# Altium schematic symbol library Schlib_Harwin.SchLib: 9 symbols
Pins are listed as number, name and electrical type; pins without a type are passive.

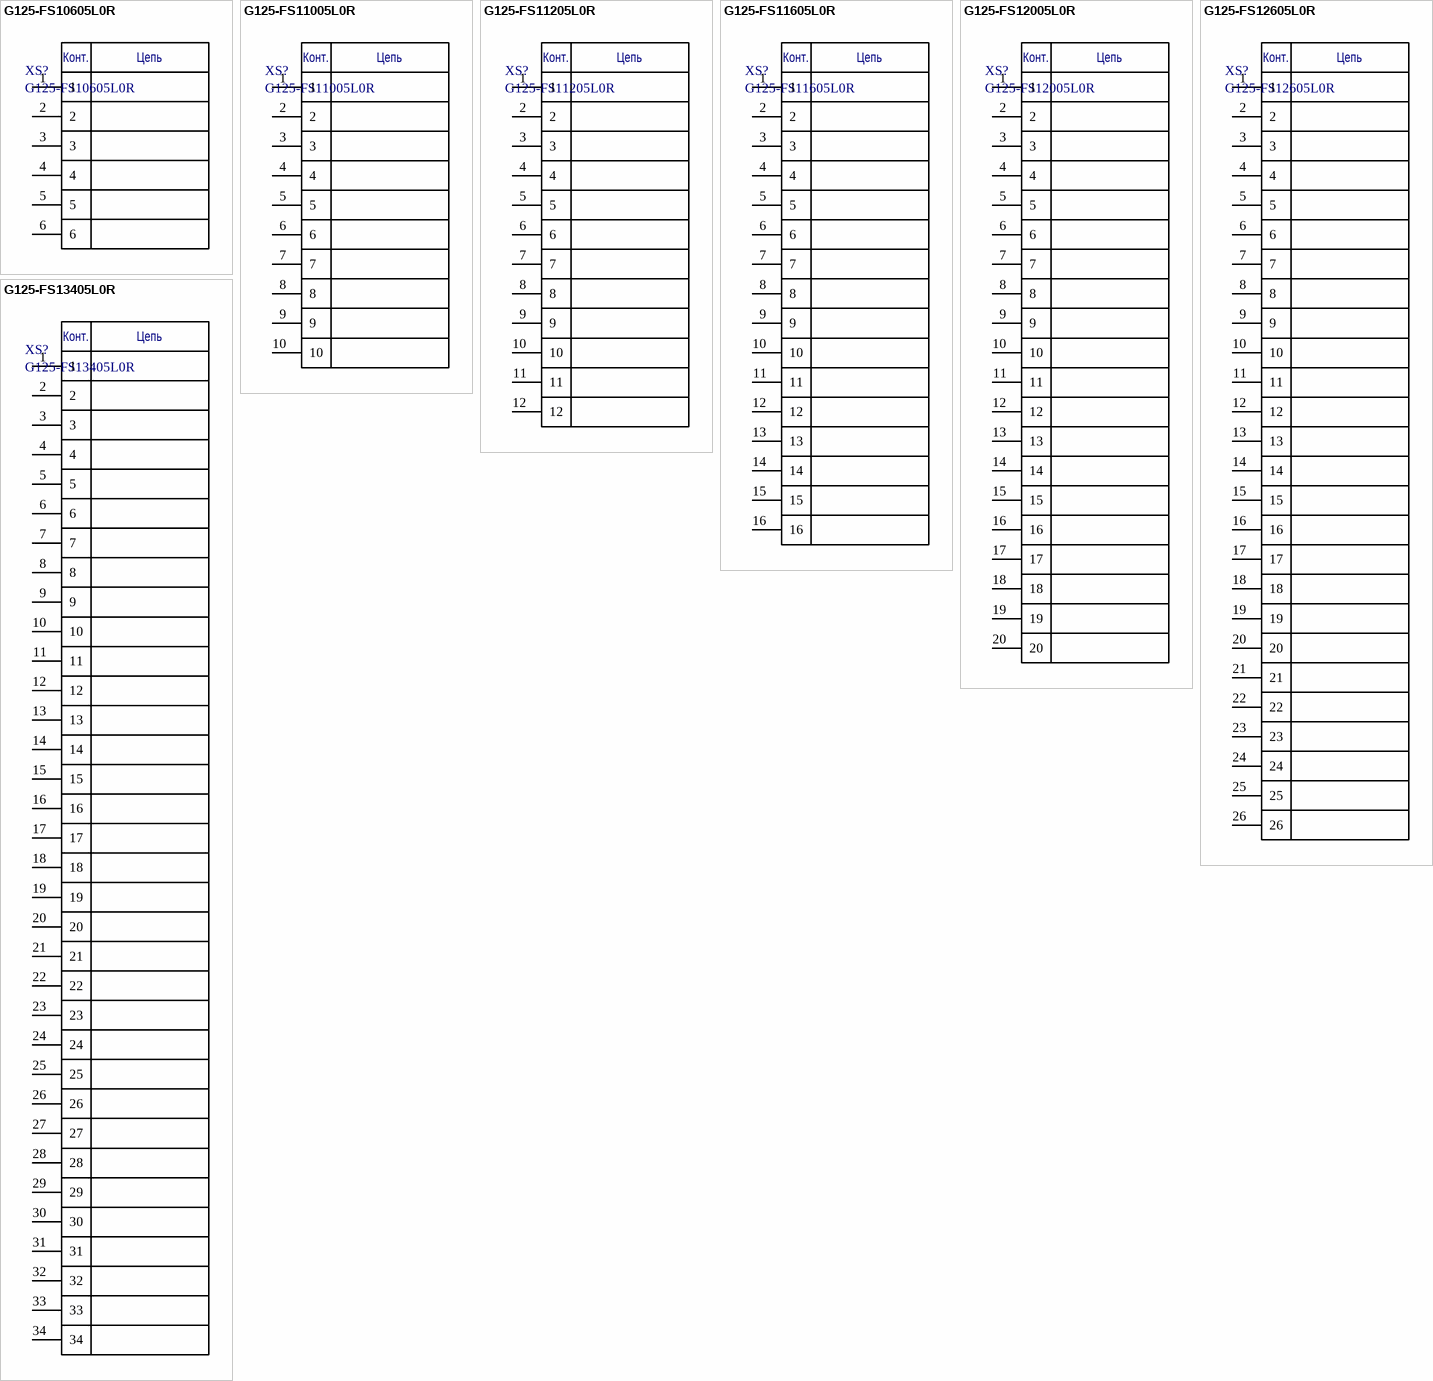
[diagram p0: symbols G125-FS10605L0R to G125-FS13405L0R]

## G125-FS10605L0R
designator XS?
3+3 Pos. Female DIL Vertical SMT Conn. for Latches (T+R); Manufacturer: Harwin Inc.; PartNumber: G125-FS10605L0R
footprint G125-FS10605L0
pins: 1, 2, 3, 4, 5, 6
text: Конт.; Цепь

## G125-FS11005L0R
designator XS?
5+5 Pos. Female DIL Vertical SMT Conn. for Latches (T+R); Manufacturer: Harwin Inc.; PartNumber: G125-FS11005L0R
footprint G125-FS11005L0
pins: 1, 2, 3, 4, 5, 6, 7, 8, 9, 10
text: Конт.; Цепь

## G125-FS11205L0R
designator XS?
6+6 Pos. Female DIL Vertical SMT Conn. for Latches (T+R); Manufacturer: Harwin Inc.; PartNumber: G125-FS11205L0R
footprint G125-FS11205L0
pins: 1, 2, 3, 4, 5, 6, 7, 8, 9, 10, 11, 12
text: Конт.; Цепь

## G125-FS11605L0R
designator XS?
8+8 Pos. Female DIL Vertical SMT Conn. for Latches (T+R); Manufacturer: Harwin Inc.; PartNumber: G125-FS11605L0R
footprint G125-FS11605L0
pins: 1, 2, 3, 4, 5, 6, 7, 8, 9, 10, 11, 12, 13, 14, 15, 16
text: Конт.; Цепь

## G125-FS12005L0R
designator XS?
10+10 Pos. Female DIL Vertical SMT Conn. for Latches (T+R); Manufacturer: Harwin Inc.; PartNumber: G125-FS12005L0R
footprint G125-FS12005L0
pins: 1, 2, 3, 4, 5, 6, 7, 8, 9, 10, 11, 12, 13, 14, 15, 16, 17, 18, 19, 20
text: Конт.; Цепь

## G125-FS12605L0R
designator XS?
13+13 Pos. Female DIL Vertical SMT Conn. for Latches (T+R); Manufacturer: Harwin Inc.; PartNumber: G125-FS12605L0R
footprint G125-FS12605L0
pins: 1, 2, 3, 4, 5, 6, 7, 8, 9, 10, 11, 12, 13, 14, 15, 16, 17, 18, 19, 20, 21, 22, 23, 24, 25, 26
text: Конт.; Цепь

## G125-FS13405L0R
designator XS?
17+17 Pos. Female DIL Vertical SMT Conn. for Latches (T+R); Manufacturer: Harwin Inc.; PartNumber: G125-FS13405L0R
footprint G125-FS13405L0
pins: 1, 2, 3, 4, 5, 6, 7, 8, 9, 10, 11, 12, 13, 14, 15, 16, 17, 18, 19, 20, 21, 22, 23, 24, 25, 26, 27, 28, 29, 30, 31, 32, 33, 34
text: Конт.; Цепь

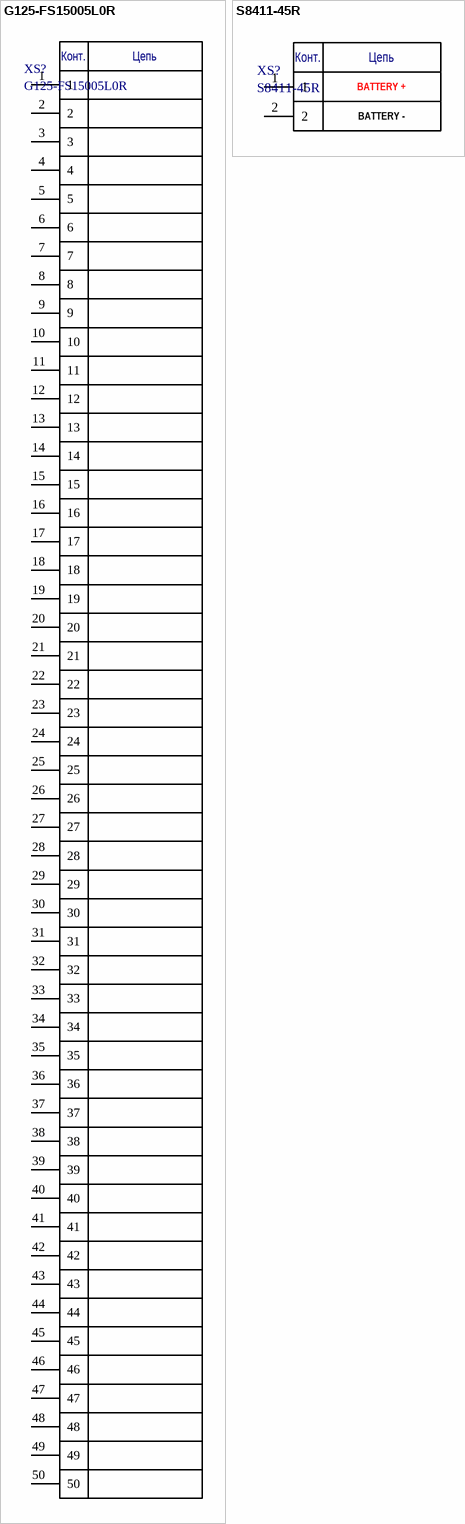
[diagram p1: symbols G125-FS15005L0R to S8411-45R]

## G125-FS15005L0R
designator XS?
25+25 Pos. Female DIL Vertical SMT Conn. for Latches (T+R); Manufacturer: Harwin Inc.; PartNumber: G125-FS15005L0R
footprint G125-FS15005L0
pins: 1, 2, 3, 4, 5, 6, 7, 8, 9, 10, 11, 12, 13, 14, 15, 16, 17, 18, 19, 20, 21, 22, 23, 24, 25, 26, 27, 28, 29, 30, 31, 32, 33, 34, 35, 36, 37, 38, 39, 40, 41, 42, 43, 44, 45, 46, 47, 48, 49, 50
text: Конт.; Цепь

## S8411-45R
designator XS?
SMT Coin Cell Holder for CR1220; Manufacturer: Harwin Inc.; PartNumber: S8411-45R
footprint S8411-45R (CR1220 battery holder)
pins: 1, 2
text: Конт.; Цепь; BATTERY +; BATTERY -